# Altium footprint library ICs and SemiConductors.PcbLib: 61 footprints (part 4 of 4)
Each footprint in its own frame and in the unit in brackets; x right, y up, seen from the top. Pads: shape width x height; smd on the part's side, far side on the other; paste and mask are expansions set on the pad; w line width, h text height; cw(c..) or ccw(c..) is an arc to the next point about the centre after c.
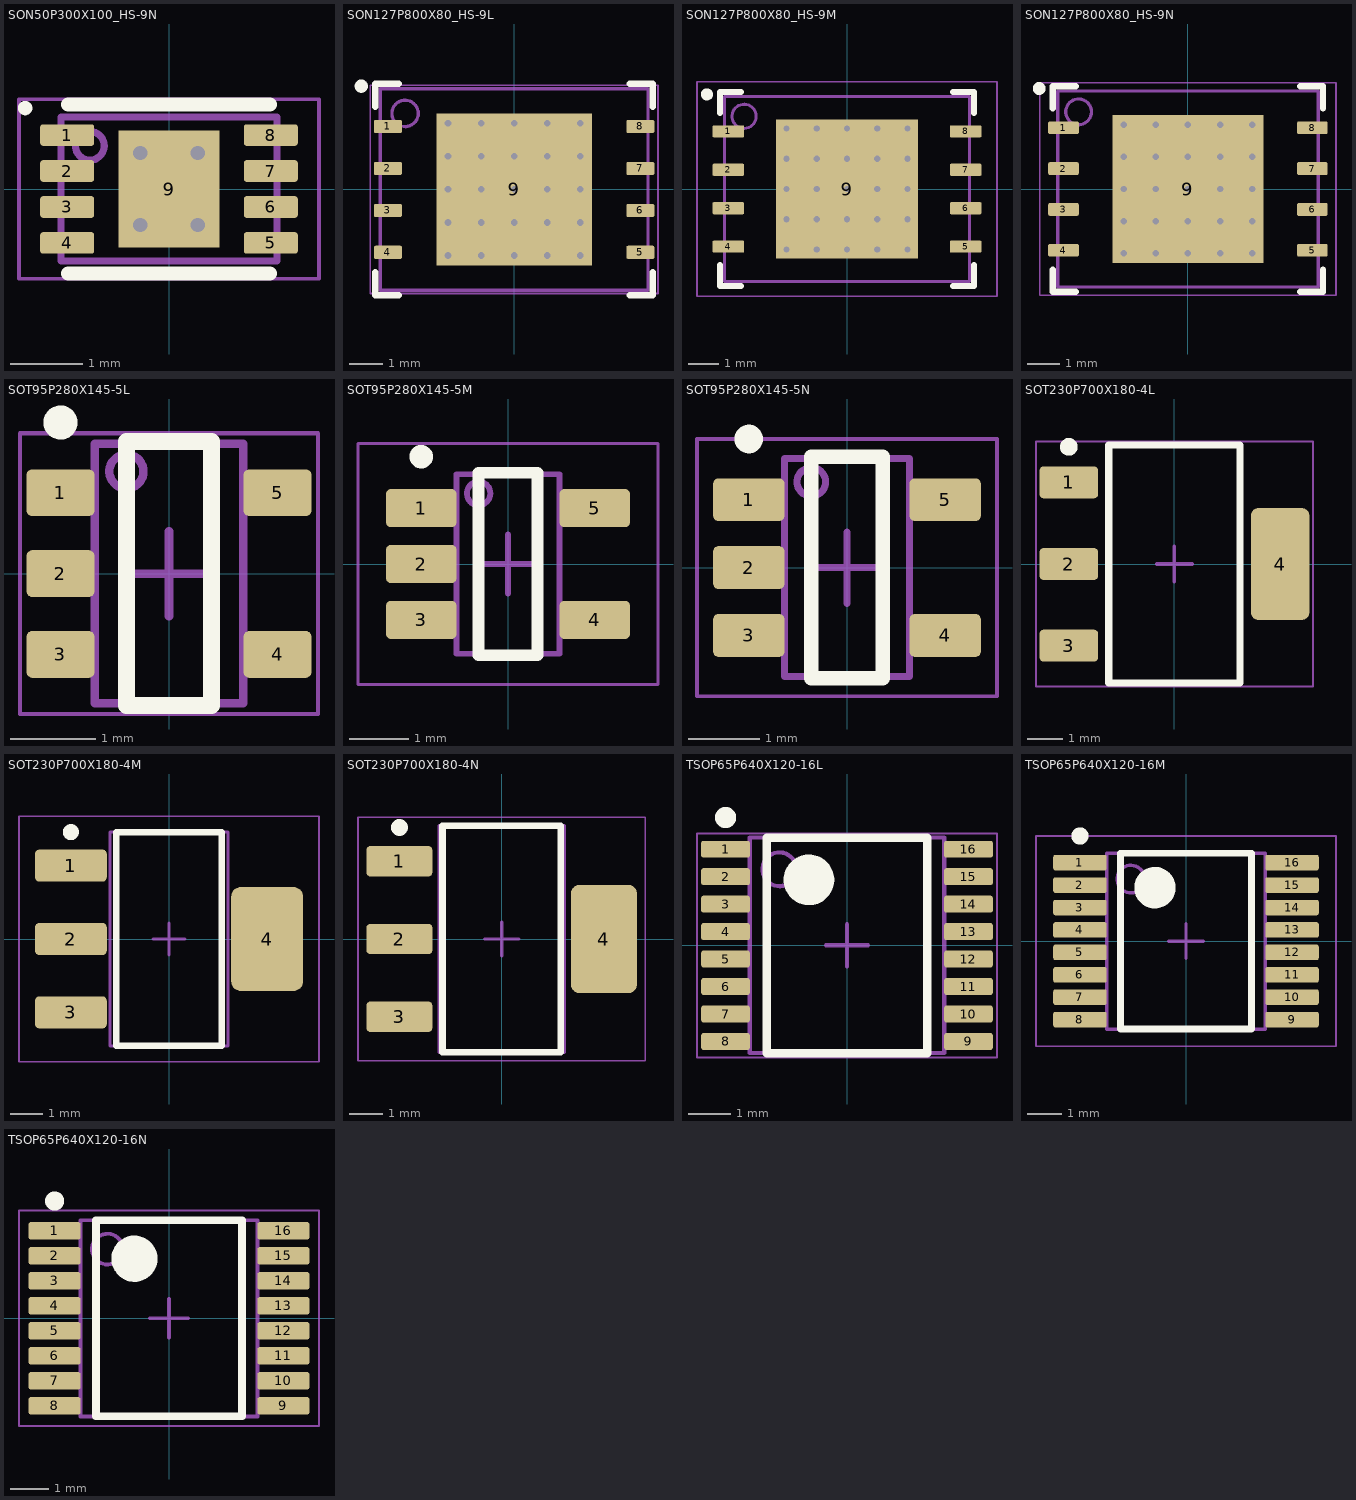
[diagram p3: the footprints below, top view; thin cyan lines are the x and y axes]

## SON50P300X100_HS-9N [mm] "SON, 8-Leads, Body 2.00x3.00mm, Pitch 0.50mm, Thermal Pad 1.63x1.40mm, IPC Medium Density"
height 1
pads (9):
  rrect25% 0.75x0.3 smd paste+0 mask+0.05: 1(-1.415,0.75) 2(-1.415,0.25) 3(-1.415,-0.25) 4(-1.415,-0.75) 5(1.415,-0.75) 6(1.415,-0.25) 7(1.415,0.25) 8(1.415,0.75)
  rect 1.4x1.63 smd paste+0 mask+0.05: 9(0,0)
via -0.4,0.5 diameter 0.5 hole 0.2
via 0.4,0.5 diameter 0.5 hole 0.2
via 0.4,-0.5 diameter 0.5 hole 0.2
via -0.4,-0.5 diameter 0.5 hole 0.2
Top Overlay:
  circle w0.1: c-2,1.125 r0.05
  lines w0.2: -1.4,-1.175 1.4,-1.175 ; -1.4,1.175 1.4,1.175
Top Component Outline:
  lines w0.1: -1.5,-1 1.5,-1 1.5,1 -1.5,1 -1.5,-1
Top Courtyard:
  lines w0.05: -2.085,-1.25 2.085,-1.25 2.085,1.25 -2.085,1.25 -2.085,-1.25
Top Component Center:
  lines w0.1: -0.5,0 0.5,0 ; 0,-0.5 0,0.5
Top Designator:
  text ".Designator" at -4.04,-0.476 h2
Top Assembly:
  circle w0.1: c-1.1,0.6 r0.2
  lines w0.1: -1.5,-1 1.5,-1 1.5,1 -1.5,1 -1.5,-1
  text ".Designator" at -4.04,-0.476 h2
3D body "SON50P300X100_HS-9N.step": height 1, standoff 0, extent -1.501,-1 1.501,1

## SON127P800X80_HS-9L [mm] "SON, 8-Leads, Body 6.00x8.00mm, Pitch 1.27mm, Thermal Pad 4.60x4.70mm, IPC High Density"
height 0.8
pads (9):
  rrect25% 0.85x0.4 smd paste+0 mask+0.05: 1(-3.82,1.905) 2(-3.82,0.635) 3(-3.82,-0.635) 4(-3.82,-1.905) 5(3.82,-1.905) 6(3.82,-0.635) 7(3.82,0.635) 8(3.82,1.905)
  rect 4.7x4.6 smd paste+0 mask+0.05: 9(0,0)
via 2,-2 diameter 0.5 hole 0.2
via 1,-2 diameter 0.5 hole 0.2
via 0,-2 diameter 0.5 hole 0.2
via -1,-2 diameter 0.5 hole 0.2
via -2,-2 diameter 0.5 hole 0.2
via 2,-1 diameter 0.5 hole 0.2
via 1,-1 diameter 0.5 hole 0.2
via 0,-1 diameter 0.5 hole 0.2
via -1,-1 diameter 0.5 hole 0.2
via -2,-1 diameter 0.5 hole 0.2
via 2,0 diameter 0.5 hole 0.2
via 1,0 diameter 0.5 hole 0.2
via 0,0 diameter 0.5 hole 0.2
via -1,0 diameter 0.5 hole 0.2
via -2,0 diameter 0.5 hole 0.2
via 2,1 diameter 0.5 hole 0.2
via 1,1 diameter 0.5 hole 0.2
via 0,1 diameter 0.5 hole 0.2
via -1,1 diameter 0.5 hole 0.2
via -2,1 diameter 0.5 hole 0.2
via 2,2 diameter 0.5 hole 0.2
via 1,2 diameter 0.5 hole 0.2
via 0,2 diameter 0.5 hole 0.2
via -1,2 diameter 0.5 hole 0.2
via -2,2 diameter 0.5 hole 0.2
Top Overlay:
  circle w0.2: c-4.625,3.125 r0.1
  lines w0.2: -4.2,-2.505 -4.2,-3.2 -3.495,-3.2 ; -4.2,2.505 -4.2,3.2 -3.495,3.2 ; 3.495,-3.2 4.2,-3.2 4.2,-2.505 ; 3.495,3.2 4.2,3.2 4.2,2.505
Top Paste:
  rectangle: 1.28,-2.2 2.26,-1.25
  rectangle: 1.28,-1.05 2.26,-0.1
  rectangle: 1.28,0.1 2.26,1.05
  rectangle: 1.28,1.25 2.26,2.2
  rectangle: 0.1,-2.2 1.08,-1.25
  rectangle: 0.1,-1.05 1.08,-0.1
  rectangle: 0.1,0.1 1.08,1.05
  rectangle: 0.1,1.25 1.08,2.2
  rectangle: -1.08,-2.2 -0.1,-1.25
  rectangle: -1.08,-1.05 -0.1,-0.1
  rectangle: -1.08,0.1 -0.1,1.05
  rectangle: -1.08,1.25 -0.1,2.2
  rectangle: -2.26,-2.2 -1.28,-1.25
  rectangle: -2.26,-1.05 -1.28,-0.1
  rectangle: -2.26,0.1 -1.28,1.05
  rectangle: -2.26,1.25 -1.28,2.2
Top Component Outline:
  lines w0.1: -4.05,-3.05 4.05,-3.05 4.05,3.05 -4.05,3.05 -4.05,-3.05
Top Courtyard:
  lines w0.05: -4.355,-3.15 -4.355,3.15 4.355,3.15 4.355,-3.15 -4.355,-3.15
Top Component Center:
  lines w0.1: -0.5,0 0.5,0 ; 0,-0.5 0,0.5
Top Designator:
  text ".Designator" at -4.04,-0.476 h2
Top Assembly:
  circle w0.1: c-3.3,2.3 r0.4
  lines w0.1: -4.05,-3.05 4.05,-3.05 4.05,3.05 -4.05,3.05 -4.05,-3.05
  text ".Designator" at -4.04,-0.476 h2
3D body "SON127P800X80_HS-9N.step": height 0.8, standoff 0, extent -4.1,-3.05 4.1,3.05

## SON127P800X80_HS-9M [mm] "SON, 8-Leads, Body 6.00x8.00mm, Pitch 1.27mm, Thermal Pad 4.60x4.70mm, IPC Low Density"
height 0.8
pads (9):
  rrect25% 1.05x0.4 smd paste+0 mask+0.05: 1(-3.92,1.905) 2(-3.92,0.635) 3(-3.92,-0.635) 4(-3.92,-1.905) 5(3.92,-1.905) 6(3.92,-0.635) 7(3.92,0.635) 8(3.92,1.905)
  rect 4.7x4.6 smd paste+0 mask+0.05: 9(0,0)
via 2,-2 diameter 0.5 hole 0.2
via 1,-2 diameter 0.5 hole 0.2
via 0,-2 diameter 0.5 hole 0.2
via -1,-2 diameter 0.5 hole 0.2
via -2,-2 diameter 0.5 hole 0.2
via 2,-1 diameter 0.5 hole 0.2
via 1,-1 diameter 0.5 hole 0.2
via 0,-1 diameter 0.5 hole 0.2
via -1,-1 diameter 0.5 hole 0.2
via -2,-1 diameter 0.5 hole 0.2
via 2,0 diameter 0.5 hole 0.2
via 1,0 diameter 0.5 hole 0.2
via 0,0 diameter 0.5 hole 0.2
via -1,0 diameter 0.5 hole 0.2
via -2,0 diameter 0.5 hole 0.2
via 2,1 diameter 0.5 hole 0.2
via 1,1 diameter 0.5 hole 0.2
via 0,1 diameter 0.5 hole 0.2
via -1,1 diameter 0.5 hole 0.2
via -2,1 diameter 0.5 hole 0.2
via 2,2 diameter 0.5 hole 0.2
via 1,2 diameter 0.5 hole 0.2
via 0,2 diameter 0.5 hole 0.2
via -1,2 diameter 0.5 hole 0.2
via -2,2 diameter 0.5 hole 0.2
Top Overlay:
  circle w0.2: c-4.625,3.125 r0.1
  lines w0.2: -4.2,-2.505 -4.2,-3.2 -3.495,-3.2 ; -4.2,2.505 -4.2,3.2 -3.495,3.2 ; 3.495,-3.2 4.2,-3.2 4.2,-2.505 ; 3.495,3.2 4.2,3.2 4.2,2.505
Top Paste:
  rectangle: 1.28,-2.2 2.26,-1.25
  rectangle: 1.28,-1.05 2.26,-0.1
  rectangle: 1.28,0.1 2.26,1.05
  rectangle: 1.28,1.25 2.26,2.2
  rectangle: 0.1,-2.2 1.08,-1.25
  rectangle: 0.1,-1.05 1.08,-0.1
  rectangle: 0.1,0.1 1.08,1.05
  rectangle: 0.1,1.25 1.08,2.2
  rectangle: -1.08,-2.2 -0.1,-1.25
  rectangle: -1.08,-1.05 -0.1,-0.1
  rectangle: -1.08,0.1 -0.1,1.05
  rectangle: -1.08,1.25 -0.1,2.2
  rectangle: -2.26,-2.2 -1.28,-1.25
  rectangle: -2.26,-1.05 -1.28,-0.1
  rectangle: -2.26,0.1 -1.28,1.05
  rectangle: -2.26,1.25 -1.28,2.2
Top Component Outline:
  lines w0.1: -4.05,-3.05 4.05,-3.05 4.05,3.05 -4.05,3.05 -4.05,-3.05
Top Courtyard:
  lines w0.05: -4.955,-3.55 4.955,-3.55 4.955,3.55 -4.955,3.55 -4.955,-3.55
Top Component Center:
  lines w0.1: -0.5,0 0.5,0 ; 0,-0.5 0,0.5
Top Designator:
  text ".Designator" at -4.04,-0.476 h2
Top Assembly:
  circle w0.1: c-3.4,2.4 r0.4
  lines w0.1: -4.05,-3.05 4.05,-3.05 4.05,3.05 -4.05,3.05 -4.05,-3.05
  text ".Designator" at -4.04,-0.476 h2
3D body "SON127P800X80_HS-9N.step": height 0.8, standoff 0, extent -4.1,-3.05 4.1,3.05

## SON127P800X80_HS-9N [mm] "SON, 8-Leads, Body 6.00x8.00mm, Pitch 1.27mm, Thermal Pad 4.60x4.70mm, IPC Medium Density"
height 0.8
pads (9):
  rrect25% 0.95x0.4 smd paste+0 mask+0.05: 1(-3.87,1.905) 2(-3.87,0.635) 3(-3.87,-0.635) 4(-3.87,-1.905) 5(3.87,-1.905) 6(3.87,-0.635) 7(3.87,0.635) 8(3.87,1.905)
  rect 4.7x4.6 smd paste+0 mask+0.05: 9(0,0)
via -2,2 diameter 0.5 hole 0.2
via -1,2 diameter 0.5 hole 0.2
via 0,2 diameter 0.5 hole 0.2
via 1,2 diameter 0.5 hole 0.2
via 2,2 diameter 0.5 hole 0.2
via -2,1 diameter 0.5 hole 0.2
via -1,1 diameter 0.5 hole 0.2
via 0,1 diameter 0.5 hole 0.2
via 1,1 diameter 0.5 hole 0.2
via 2,1 diameter 0.5 hole 0.2
via -2,0 diameter 0.5 hole 0.2
via -1,0 diameter 0.5 hole 0.2
via 0,0 diameter 0.5 hole 0.2
via 1,0 diameter 0.5 hole 0.2
via 2,0 diameter 0.5 hole 0.2
via -2,-1 diameter 0.5 hole 0.2
via -1,-1 diameter 0.5 hole 0.2
via 0,-1 diameter 0.5 hole 0.2
via 1,-1 diameter 0.5 hole 0.2
via 2,-1 diameter 0.5 hole 0.2
via -2,-2 diameter 0.5 hole 0.2
via -1,-2 diameter 0.5 hole 0.2
via 0,-2 diameter 0.5 hole 0.2
via 1,-2 diameter 0.5 hole 0.2
via 2,-2 diameter 0.5 hole 0.2
Top Overlay:
  circle w0.2: c-4.625,3.125 r0.1
  lines w0.2: -4.2,-2.505 -4.2,-3.2 -3.495,-3.2 ; -4.2,2.505 -4.2,3.2 -3.495,3.2 ; 3.495,-3.2 4.2,-3.2 4.2,-2.505 ; 3.495,3.2 4.2,3.2 4.2,2.505
Top Paste:
  rectangle: -2.26,1.25 -1.28,2.2
  rectangle: -2.26,0.1 -1.28,1.05
  rectangle: -2.26,-1.05 -1.28,-0.1
  rectangle: -2.26,-2.2 -1.28,-1.25
  rectangle: -1.08,1.25 -0.1,2.2
  rectangle: -1.08,0.1 -0.1,1.05
  rectangle: -1.08,-1.05 -0.1,-0.1
  rectangle: -1.08,-2.2 -0.1,-1.25
  rectangle: 0.1,1.25 1.08,2.2
  rectangle: 0.1,0.1 1.08,1.05
  rectangle: 0.1,-1.05 1.08,-0.1
  rectangle: 0.1,-2.2 1.08,-1.25
  rectangle: 1.28,1.25 2.26,2.2
  rectangle: 1.28,0.1 2.26,1.05
  rectangle: 1.28,-1.05 2.26,-0.1
  rectangle: 1.28,-2.2 2.26,-1.25
Top Component Outline:
  lines w0.1: -4.05,-3.05 -4.05,3.05 4.05,3.05 4.05,-3.05 -4.05,-3.05
Top Courtyard:
  lines w0.05: -4.605,-3.3 -4.605,3.3 4.605,3.3 4.605,-3.3 -4.605,-3.3
Top Component Center:
  lines w0.1: -0.5,0 0.5,0 ; 0,-0.5 0,0.5
Top Designator:
  text ".Designator" at -4.04,-0.476 h2
Top Assembly:
  circle w0.1: c-3.4,2.4 r0.4
  lines w0.1: -4.05,-3.05 -4.05,3.05 4.05,3.05 4.05,-3.05 -4.05,-3.05
  text ".Designator" at -4.04,-0.476 h2
3D body "SON127P800X80_HS-9N.step": height 0.8, standoff 0, extent -4.1,-3.05 4.1,3.05

## SOT95P280X145-5L [mm] "SOT23, 5-Leads, Body 2.90x2.80mm, Pitch 0.95mm, IPC High Density"
height 1.45
pads (5):
  rrect25% 0.8x0.55 smd paste+0 mask+0.05: 1(-1.275,0.95) 2(-1.275,0) 3(-1.275,-0.95) 4(1.275,-0.95) 5(1.275,0.95)
Top Overlay:
  circle w0.2: c-1.275,1.775 r0.1
  lines w0.2: -0.5,-1.55 -0.5,1.55 0.5,1.55 0.5,-1.55 -0.5,-1.55
Top Component Outline:
  lines w0.1: -0.875,-1.525 -0.875,1.525 0.875,1.525 0.875,-1.525 -0.875,-1.525
Top Courtyard:
  lines w0.05: -1.75,-1.65 1.75,-1.65 1.75,1.65 -1.75,1.65 -1.75,-1.65
Top Component Center:
  lines w0.1: -0.5,0 0.5,0 ; 0,-0.5 0,0.5
Top Assembly:
  circle w0.1: c-0.5,1.2 r0.2
  lines w0.1: -0.875,-1.525 0.875,-1.525 0.875,1.525 -0.875,1.525 -0.875,-1.525
3D body "SOT95P280X145-5N.step": height 1.45, standoff 0, extent -1.5,-1.525 1.5,1.525

## SOT95P280X145-5M [mm] "SOT23, 5-Leads, Body 2.90x2.80mm, Pitch 0.95mm, IPC Low Density"
height 1.45
pads (5):
  rrect25% 1.2x0.65 smd paste+0 mask+0.05: 1(-1.475,0.95) 2(-1.475,0) 3(-1.475,-0.95) 4(1.475,-0.95) 5(1.475,0.95)
Top Overlay:
  circle w0.2: c-1.475,1.825 r0.1
  lines w0.2: -0.5,-1.55 -0.5,1.55 0.5,1.55 0.5,-1.55 -0.5,-1.55
Top Component Outline:
  lines w0.1: -0.875,-1.525 -0.875,1.525 0.875,1.525 0.875,-1.525 -0.875,-1.525
Top Courtyard:
  lines w0.05: -2.55,-2.05 2.55,-2.05 2.55,2.05 -2.55,2.05 -2.55,-2.05
Top Component Center:
  lines w0.1: -0.5,0 0.5,0 ; 0,-0.5 0,0.5
Top Assembly:
  circle w0.1: c-0.5,1.2 r0.2
  lines w0.1: -0.875,-1.525 0.875,-1.525 0.875,1.525 -0.875,1.525 -0.875,-1.525
3D body "SOT95P280X145-5N.step": height 1.45, standoff 0, extent -1.5,-1.525 1.5,1.525

## SOT95P280X145-5N [mm] "SOT23, 5-Leads, Body 2.90x2.80mm, Pitch 0.95mm, IPC Medium Density"
height 1.45
pads (5):
  rrect25% 1x0.6 smd paste+0 mask+0.05: 1(-1.375,0.95) 2(-1.375,0) 3(-1.375,-0.95) 4(1.375,-0.95) 5(1.375,0.95)
Top Overlay:
  circle w0.2: c-1.375,1.8 r0.1
  lines w0.2: -0.5,-1.55 -0.5,1.55 0.5,1.55 0.5,-1.55 -0.5,-1.55
Top Component Outline:
  lines w0.1: -0.875,-1.525 0.875,-1.525 0.875,1.525 -0.875,1.525 -0.875,-1.525
Top Courtyard:
  lines w0.05: -2.1,-1.8 2.1,-1.8 2.1,1.8 -2.1,1.8 -2.1,-1.8
Top Component Center:
  lines w0.1: -0.5,0 0.5,0 ; 0,-0.5 0,0.5
Top Assembly:
  circle w0.1: c-0.5,1.2 r0.2
  lines w0.1: -0.875,-1.525 0.875,-1.525 0.875,1.525 -0.875,1.525 -0.875,-1.525
3D body "SOT95P280X145-5N.step": height 1.45, standoff 0, extent -1.5,-1.525 1.5,1.525

## SOT230P700X180-4L [mm] "SOT223, 4-Leads, Body 6.50x7.00mm (avg), Pitch 2.30mm, IPC High Density"
height 1.8
pads (4):
  rrect25% 1.65x0.9 smd paste+0 mask+0.05: 1(-2.975,2.3) 2(-2.975,0) 3(-2.975,-2.3)
  rrect25% 1.65x3.15 smd paste+0 mask+0.05: 4(2.975,0)
Top Overlay:
  circle w0.25: c-2.975,3.3 r0.125
  lines w0.2: -1.85,-3.35 -1.85,3.35 1.85,3.35 1.85,-3.35 -1.85,-3.35
Top Component Outline:
  lines w0.1: -1.85,-3.35 -1.85,3.35 1.85,3.35 1.85,-3.35 -1.85,-3.35
Top Courtyard:
  lines w0.05: -3.9,-3.45 -3.9,3.45 3.9,3.45 3.9,-3.45 -3.9,-3.45
Top Component Center:
  lines w0.1: -0.5,0 0.5,0 ; 0,-0.5 0,0.5
Top Designator:
  text ".Designator" at -4.04,-0.476 h2
Top Assembly:
  lines w0.1: -1.85,-3.35 -1.85,3.35 1.85,3.35 1.85,-3.35 -1.85,-3.35
  text ".Designator" at -4.04,-0.476 h2
3D body "SOT230P700X180-4N.step": height 1.8, standoff 0, extent -3.5,-3.35 3.5,3.35

## SOT230P700X180-4M [mm] "SOT223, 4-Leads, Body 6.50x7.00mm (avg), Pitch 2.30mm, IPC Low Density"
height 1.8
pads (4):
  rrect25% 2.25x1 smd paste+0 mask+0.05: 1(-3.075,2.3) 2(-3.075,0) 3(-3.075,-2.3)
  rrect25% 2.25x3.25 smd paste+0 mask+0.05: 4(3.075,0)
Top Overlay:
  circle w0.25: c-3.075,3.35 r0.125
  lines w0.2: -1.65,-3.35 -1.65,3.35 1.65,3.35 1.65,-3.35 -1.65,-3.35
Top Component Outline:
  lines w0.1: -1.85,-3.35 -1.85,3.35 1.85,3.35 1.85,-3.35 -1.85,-3.35
Top Courtyard:
  lines w0.05: -4.7,-3.85 -4.7,3.85 4.7,3.85 4.7,-3.85 -4.7,-3.85
Top Component Center:
  lines w0.1: -0.5,0 0.5,0 ; 0,-0.5 0,0.5
Top Designator:
  text ".Designator" at -4.04,-0.476 h2
Top Assembly:
  lines w0.1: -1.85,-3.35 -1.85,3.35 1.85,3.35 1.85,-3.35 -1.85,-3.35
  text ".Designator" at -4.04,-0.476 h2
3D body "SOT230P700X180-4N.step": height 1.8, standoff 0, extent -3.5,-3.35 3.5,3.35

## SOT230P700X180-4N [mm] "SOT223, 4-Leads, Body 6.50x7.00mm (avg), Pitch 2.30mm, IPC Medium Density"
height 1.8
pads (4):
  rrect25% 1.95x0.9 smd paste+0 mask+0.05: 1(-3.025,2.3) 2(-3.025,0) 3(-3.025,-2.3)
  rrect25% 1.95x3.2 smd paste+0 mask+0.05: 4(3.025,0)
Top Overlay:
  circle w0.25: c-3.025,3.3 r0.125
  lines w0.2: -1.75,-3.35 1.75,-3.35 1.75,3.35 -1.75,3.35 -1.75,-3.35
Top Component Outline:
  lines w0.1: -1.85,-3.35 1.85,-3.35 1.85,3.35 -1.85,3.35 -1.85,-3.35
Top Courtyard:
  lines w0.05: -4.25,-3.6 4.25,-3.6 4.25,3.6 -4.25,3.6 -4.25,-3.6
Top Component Center:
  lines w0.1: -0.5,0 0.5,0 ; 0,-0.5 0,0.5
Top Designator:
  text ".Designator" at -4.04,-0.476 h2
Top Assembly:
  lines w0.1: -1.85,-3.35 1.85,-3.35 1.85,3.35 -1.85,3.35 -1.85,-3.35
  text ".Designator" at -4.04,-0.476 h2
3D body "SOT230P700X180-4N.step": height 1.8, standoff 0, extent -3.5,-3.35 3.5,3.35

## TSOP65P640X120-16L [mm] "TSOP, 16-Leads, Body 5.00x4.45mm, Pitch 0.65mm, IPC High Density"
height 1.2
pads (16):
  rrect25% 1.15x0.4 smd paste+0 mask+0.05: 1(-2.875,2.275) 2(-2.875,1.625) 3(-2.875,0.975) 4(-2.875,0.325) 5(-2.875,-0.325) 6(-2.875,-0.975) 7(-2.875,-1.625) 8(-2.875,-2.275) 9(2.875,-2.275) 10(2.875,-1.625) 11(2.875,-0.975) 12(2.875,-0.325) 13(2.875,0.325) 14(2.875,0.975) 15(2.875,1.625) 16(2.875,2.275)
Top Overlay:
  circle w0.6: c-0.9,1.55 r0.3
  circle w0.25: c-2.875,3.025 r0.125
  lines w0.2: -1.9,-2.55 1.9,-2.55 1.9,2.55 -1.9,2.55 -1.9,-2.55
Top Component Outline:
  lines w0.1: -2.3,-2.55 -2.3,2.55 2.3,2.55 2.3,-2.55 -2.3,-2.55
Top Courtyard:
  lines w0.05: -3.55,-2.65 3.55,-2.65 3.55,2.65 -3.55,2.65 -3.55,-2.65
Top Component Center:
  lines w0.1: -0.5,0 0.5,0 ; 0,-0.5 0,0.5
Top Assembly:
  circle w0.1: c-1.6,1.8 r0.4
  lines w0.1: -2.3,-2.55 2.3,-2.55 2.3,2.55 -2.3,2.55 -2.3,-2.55
3D body "TSOP65P640X120-16N.step": height 1.2, standoff 0, extent -3.2,-2.55 3.2,2.55

## TSOP65P640X120-16M [mm] "TSOP, 16-Leads, Body 5.00x4.45mm, Pitch 0.65mm, IPC Low Density"
height 1.2
pads (16):
  rrect25% 1.55x0.45 smd paste+0 mask+0.05: 1(-3.075,2.275) 2(-3.075,1.625) 3(-3.075,0.975) 4(-3.075,0.325) 5(-3.075,-0.325) 6(-3.075,-0.975) 7(-3.075,-1.625) 8(-3.075,-2.275) 9(3.075,-2.275) 10(3.075,-1.625) 11(3.075,-0.975) 12(3.075,-0.325) 13(3.075,0.325) 14(3.075,0.975) 15(3.075,1.625) 16(3.075,2.275)
Top Overlay:
  circle w0.6: c-0.9,1.55 r0.3
  circle w0.25: c-3.075,3.05 r0.125
  lines w0.2: -1.9,-2.55 1.9,-2.55 1.9,2.55 -1.9,2.55 -1.9,-2.55
Top Component Outline:
  lines w0.1: -2.3,-2.55 -2.3,2.55 2.3,2.55 2.3,-2.55 -2.3,-2.55
Top Courtyard:
  lines w0.05: -4.35,-3.05 4.35,-3.05 4.35,3.05 -4.35,3.05 -4.35,-3.05
Top Component Center:
  lines w0.1: -0.5,0 0.5,0 ; 0,-0.5 0,0.5
Top Assembly:
  circle w0.1: c-1.6,1.8 r0.4
  lines w0.1: -2.3,-2.55 2.3,-2.55 2.3,2.55 -2.3,2.55 -2.3,-2.55
3D body "TSOP65P640X120-16N.step": height 1.2, standoff 0, extent -3.2,-2.55 3.2,2.55

## TSOP65P640X120-16N [mm] "TSOP, 16-Leads, Body 5.00x4.45mm, Pitch 0.65mm, IPC Medium Density"
height 1.2
pads (16):
  rrect25% 1.35x0.45 smd paste+0 mask+0.05: 1(-2.975,2.275) 2(-2.975,1.625) 3(-2.975,0.975) 4(-2.975,0.325) 5(-2.975,-0.325) 6(-2.975,-0.975) 7(-2.975,-1.625) 8(-2.975,-2.275) 9(2.975,-2.275) 10(2.975,-1.625) 11(2.975,-0.975) 12(2.975,-0.325) 13(2.975,0.325) 14(2.975,0.975) 15(2.975,1.625) 16(2.975,2.275)
Top Overlay:
  circle w0.25: c-2.975,3.05 r0.125
  circle w0.6: c-0.9,1.55 r0.3
  lines w0.2: -1.9,-2.55 -1.9,2.55 1.9,2.55 1.9,-2.55 -1.9,-2.55
Top Component Outline:
  lines w0.1: -2.3,-2.55 -2.3,2.55 2.3,2.55 2.3,-2.55 -2.3,-2.55
Top Courtyard:
  lines w0.05: -3.9,-2.8 -3.9,2.8 3.9,2.8 3.9,-2.8 -3.9,-2.8
Top Component Center:
  lines w0.1: -0.5,0 0.5,0 ; 0,-0.5 0,0.5
Top Designator:
  text ".Designator" at -4.04,-0.476 h2
Top Assembly:
  circle w0.1: c-1.6,1.8 r0.4
  lines w0.1: -2.3,-2.55 -2.3,2.55 2.3,2.55 2.3,-2.55 -2.3,-2.55
  text ".Designator" at -4.04,-0.476 h2
3D body "TSOP65P640X120-16N.step": height 1.2, standoff 0, extent -3.2,-2.55 3.2,2.55